# Altium footprint library US6K4TR.PcbLib: 1 footprints
Each footprint in its own frame and in the unit in brackets; x right, y up, seen from the top. Pads: shape width x height; smd on the part's side, far side on the other; paste and mask are expansions set on the pad; w line width, h text height; cw(c..) or ccw(c..) is an arc to the next point about the centre after c.
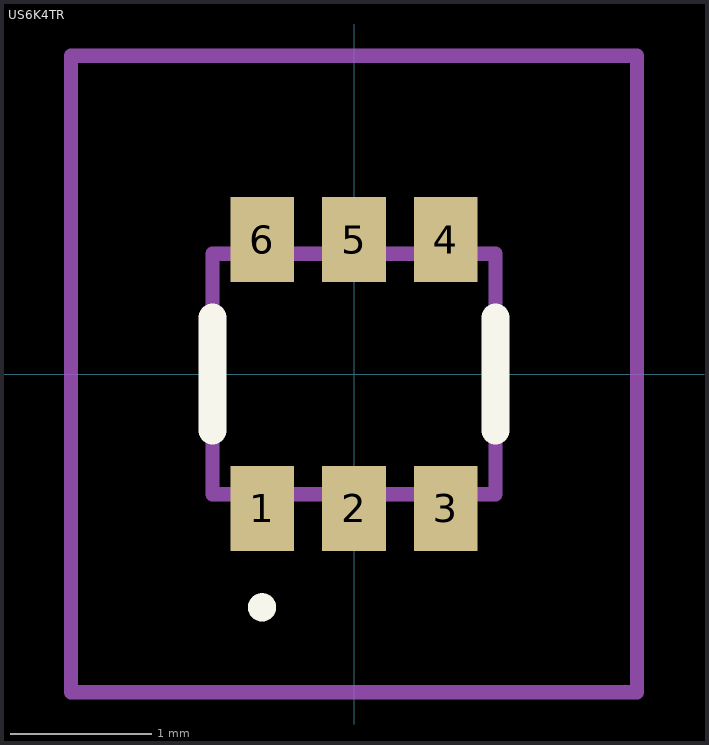
[diagram p0: the footprint, top view; thin cyan lines are the x and y axes]

## US6K4TR [mm]
pads (6):
  rect 0.45x0.6 smd: 1(-0.65,-0.95) 2(0,-0.95) 3(0.65,-0.95) 4(0.65,0.95) 5(0,0.95) 6(-0.65,0.95)
Top Overlay:
  lines w0.1: -0.65,-1.7 cw(c-0.65,-1.65) -0.65,-1.6 ; -0.65,-1.7 -0.65,-1.7 ; -0.65,-1.7 ccw(c-0.65,-1.65) -0.65,-1.6 ; -0.65,-1.6 -0.65,-1.6
  lines w0.2: -1,-0.4 -1,0.4 ; 1,-0.4 1,0.4
Mechanical 15:
  lines w0.1: -1,-0.85 1,-0.85 1,0.85 -1,0.85 -1,-0.85
Mechanical 20:
  lines w0.1: -2,-2.25 2,-2.25 2,2.25 -2,2.25 -2,-2.25